# Altium schematic symbol library RELAY-4L.Schlib: 1 symbol
Pins are listed as number, name and electrical type; pins without a type are passive.

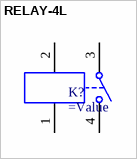
[diagram p0: symbol RELAY-4L]

## RELAY-4L
designator K?
=Description
pins: 1, 2, 3, 4